# EAGLE library part PIN_1X24 (library IsaacAlonso)
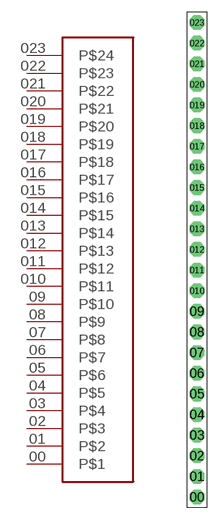
[diagram p3: symbol with the pads of PIN_1X24; footprint PIN_1X24]

Designator prefix -

## PIN_1X24  [PIN_1X24]
00  P$1
01  P$2
02  P$3
03  P$4
04  P$5
05  P$6
06  P$7
07  P$8
08  P$9
09  P$10
010  P$11
011  P$12
012  P$13
013  P$14
014  P$15
015  P$16
016  P$17
017  P$18
018  P$19
019  P$20
020  P$21
021  P$22
022  P$23
023  P$24

## Footprint PIN_1X24 (pad centres in mm)
drill 1.02 pad 1.8 octagon: 00 0,-31.75; 01 0,-29.21; 02 0,-26.67; 03 0,-24.13; 04 0,-21.59; 05 0,-19.05; 06 0,-16.51; 07 0,-13.97; 08 0,-11.43; 09 0,-8.89; 010 0,-6.35; 011 0,-3.81; 012 0,-1.27; 013 0,1.27; 014 0,3.81; 015 0,6.35; 016 0,8.89; 017 0,11.43; 018 0,13.97; 019 0,16.51; 020 0,19.05; 021 0,21.59; 022 0,24.13; 023 0,26.67